# EAGLE library part MTOP-16 (library con-amp1)
AMP connector
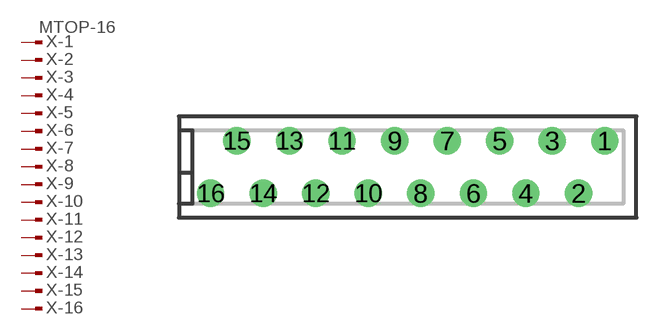
[diagram p88: symbol with the pads of MTOP-16; footprint MTOP-16]

Designator prefix X; gates -1=PIN-MV -2=PIN-M -3=PIN-M -4=PIN-M -5=PIN-M -6=PIN-M -7=PIN-M -8=PIN-M -9=PIN-M -10=PIN-M -11=PIN-M -12=PIN-M -13=PIN-M -14=PIN-M -15=PIN-M -16=PIN-M

## MTOP-16  [MTOP-16]
1  -1:1  pas
2  -2:1  pas
3  -3:1  pas
4  -4:1  pas
5  -5:1  pas
6  -6:1  pas
7  -7:1  pas
8  -8:1  pas
9  -9:1  pas
10  -10:1  pas
11  -11:1  pas
12  -12:1  pas
13  -13:1  pas
14  -14:1  pas
15  -15:1  pas
16  -16:1  pas

## Footprint MTOP-16 (pad centres in mm)
AMP connector
drill 0.813 round: 1 9.525,1.27; 2 8.255,-1.27; 3 6.985,1.27; 4 5.715,-1.27; 5 4.445,1.27; 6 3.175,-1.27; 7 1.905,1.27; 8 0.635,-1.27; 9 -0.635,1.27; 10 -1.905,-1.27; 11 -3.175,1.27; 12 -4.445,-1.27; 13 -5.715,1.27; 14 -6.985,-1.27; 15 -8.255,1.27; 16 -9.525,-1.27